# Altium schematic symbol library OpeartionalAmplifers.SchLib: 2 symbols
Pins are listed as number, name and electrical type; pins without a type are passive.

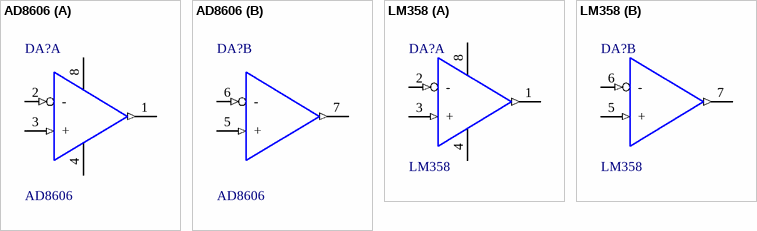
[diagram p0: symbols AD8606 to LM358]

## AD8606
designator DA?
OpAmpl, Rail-to-Rail, 6uV offset, 10MHz
footprint SOIC127P600X175-8N (SOIC, 8-Leads, Body 4,90x3,90mm, Pitch 1,27mm, IPC Medium Density)
part A pins: 1   (out), 2 - (in), 3 + (in), 4   (power), 8   (power)
part B pins: 4   (power) hidden, 5 + (in), 6 - (in), 7   (out), 8   (power) hidden

## LM358
designator DA?
OpApl, 2mV offset
footprint SOIC127P600X175-8N (SOIC, 8-Leads, Body 4,90x3,90mm, Pitch 1,27mm, IPC Medium Density)
part A pins: 1   (out), 2 - (in), 3 + (in), 4   (power), 8   (power)
part B pins: 4   (power) hidden, 5 + (in), 6 - (in), 7   (out), 8   (power) hidden